# EAGLE library part 74*152 (library 74xx-eu)
Data SELECTOR/MULTIPLEXER
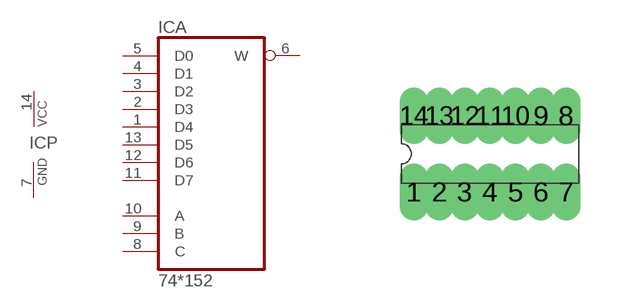
[diagram p102: symbol with the pads of DIL14; footprint DIL14]

Designator prefix IC; gates A=74152 P=PWRN

## 74152N, 74LS152N  [DIL14]
1  A:D4  in
2  A:D3  in
3  A:D2  in
4  A:D1  in
5  A:D0  in
6  A:W  out
7  P:GND  pwr
8  A:C  in
9  A:B  in
10  A:A  in
11  A:D7  in
12  A:D6  in
13  A:D5  in
14  P:VCC  pwr

## Footprint DIL14 (pad centres in mm)
Dual In Line Package
drill 0.203 long: 1 -1.905,-0.953; 2 -1.27,-0.953; 3 -0.635,-0.953; 4 0,-0.953; 5 0.635,-0.953; 6 1.27,-0.953; 7 1.905,-0.953; 8 1.905,0.953; 9 1.27,0.953; 10 0.635,0.953; 11 0,0.953; 12 -0.635,0.953; 13 -1.27,0.953; 14 -1.905,0.953